# EAGLE library part PN87520-S (library connectors-digital)
USB TYPE A, RECEPTACLE Connector Type: USB 2.0 A Gender: Receptacle No. of Contacts: 4 Contact Termination: Through Hole Right Angle Connector Mounting: PCB Contact Plating: Gold Contact Material: Copper / Zinc SVHC: No SVHC (18-Jun-2012) Connector Mounting Orientation: PCB Contact Material: CuZn Contact Resistance: 30mohm Current Rating: 1A Mounting Orientation: 90 Mounting Type: PC Board Operating Temperature Max: +105°C Operating Temperature Min: -25°C Proof Voltage: 750V Terminal Plating: Tin Termination Method: Through Hole Voltage Rating V AC: 30V
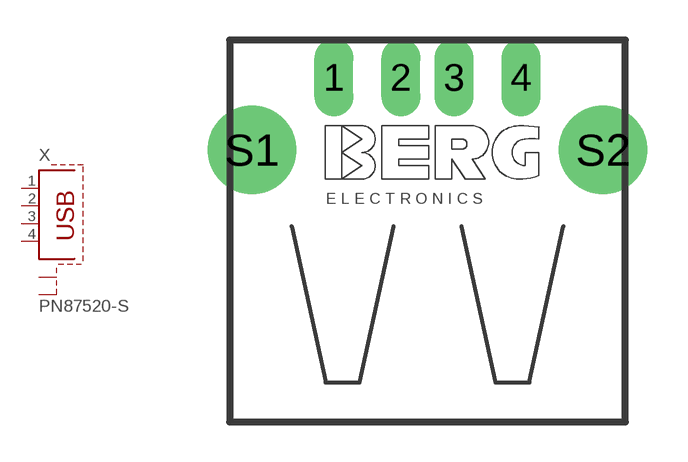
[diagram p1: symbol with the pads of PN87520-S; footprint PN87520-S]

Designator prefix X

## PN87520-S (MPN: 2410 06; OC_FARNELL: 1308874; SUPPLIER: LUMBERG)  [PN87520-S]
1  1  pas
2  2  pas
3  3  pas
4  4  pas
S1  S1  pas
S2  S2  pas

## Footprint PN87520-S (pad centres in mm)
USB connector with shield
drill 0.95 long: 1 -3.5,2.71; 2 -1,2.71; 3 1,2.71; 4 3.5,2.71
drill 2.3 pad 2.9: S1 -6.57,0; S2 6.57,0